# Altium schematic symbol library RoboCor.SchLib: 24 symbols
Pins are listed as number, name and electrical type; pins without a type are passive.

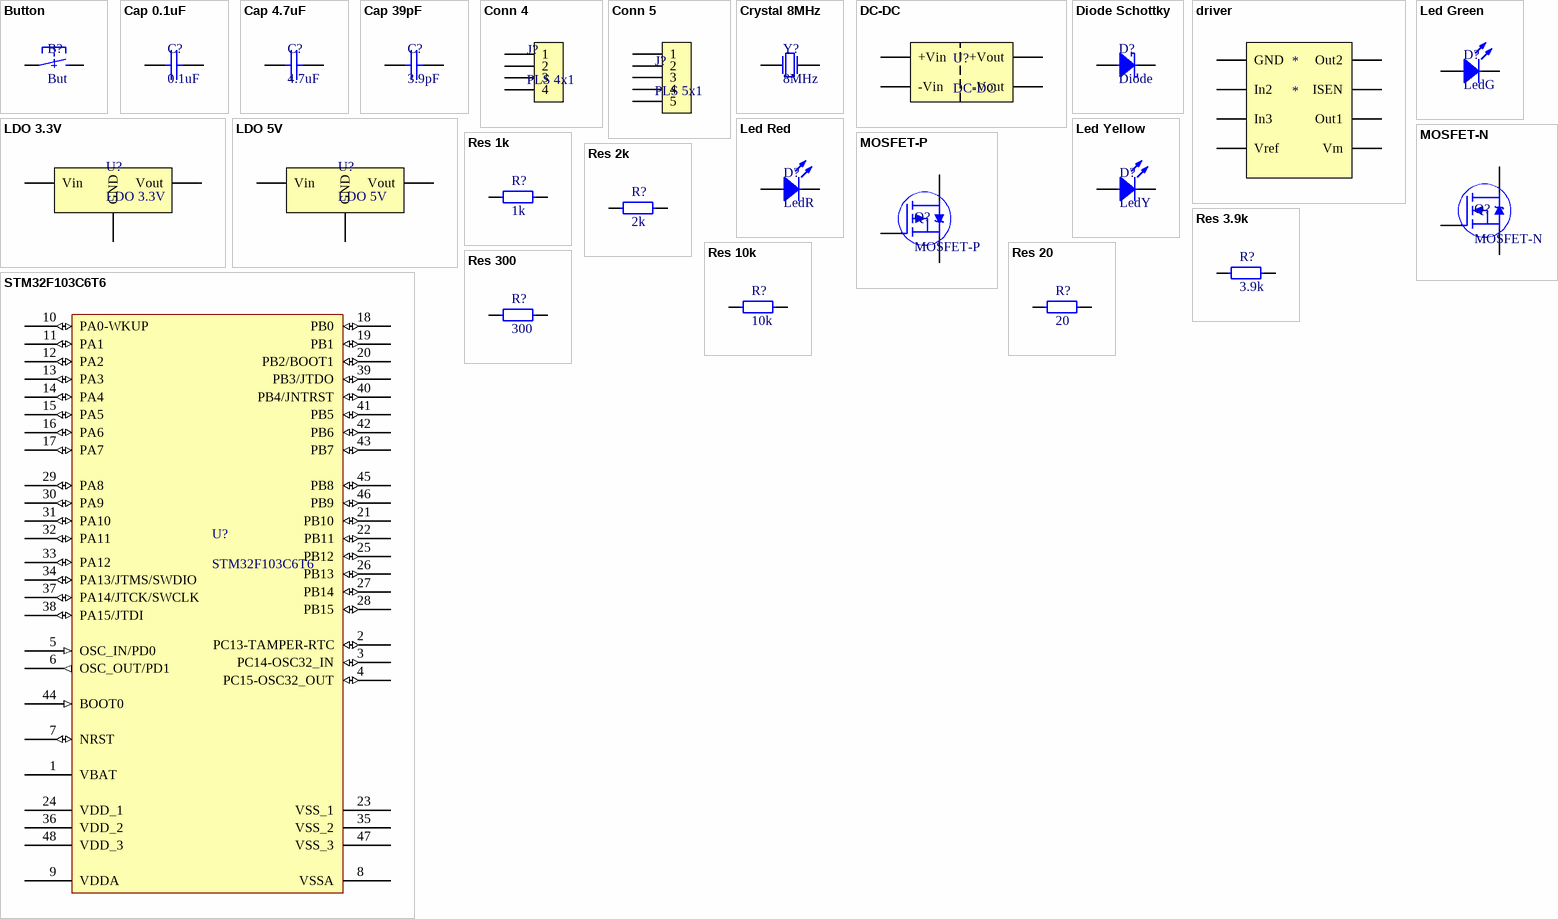
[diagram p0: symbols Button to STM32F103C6T6]

## Button
designator B?, comment But
Button 2 Conn SMD
footprint BUTTON 6x3.5
pins: 1, 2

## Cap 0.1uF
designator C?, comment 0.1uF
footprint 0805 Capicator
pins: 1, 2

## Cap 4.7uF
designator C?, comment 4.7uF
footprint 0805 Capicator
pins: 1, 2

## Cap 39pF
designator C?, comment 3.9pF
footprint 0805 Capicator
pins: 1, 2

## Conn 4
designator J?, comment PLS 4x1
Header, 4-Pin
footprint PLS 4x1 (Connector; Header; 5 Position)
pins: 1, 2, 3, 4

## Conn 5
designator J?, comment PLS 5x1
Header, 5-Pin
footprint PLS 5x1 (Connector; Header; 5 Position)
pins: 1, 2, 3, 4, 5

## Crystal 8MHz
designator Y?, comment 8MHz
Crystal. HC-49SM (US)
footprint hc-49sm
pins: 1, 2

## DC-DC
designator U?
footprint DC-DC
pins: 1 +Vin (power), 2 -Vin (power), 3 +Vout (power), 4 -Vout (power)

## Diode Schottky
designator D?, comment Diode
0.5 A, Low Forward Voltage less than 385 mV, 400 mW Power Dissipation Package
footprint sod-123
pins: 1, 2

## driver
designator *
footprint SO-8
pins: 1 GND (power), 2 In2 (power), 3 In3 (power), 4 Vref (power), 5 Vm (power), 6 Out1 (power), 7 ISEN (power), 8 Out2 (power)

## LDO 3.3V
designator U?
LDO Regulator Pos 3.3V 1.3A 4-Pin(3+Tab) SOT-223 T/R
footprint SOT-223
pins: 1 GND (power), 2 Vout (power), 3 Vin (power)

## LDO 5V
designator U?
LDO Regulator Pos 5V 1A
footprint TO-252
pins: 1 GND (power), 2 Vout (power), 3 Vin (power)

## Led Green
designator D?, comment LedG
footprint 0805 Led
pins: 1, 2

## Led Red
designator D?, comment LedR
footprint 0805 Led
pins: 1, 2

## Led Yellow
designator D?, comment LedY
footprint 0805 Led
pins: 1, 2

## MOSFET-N
designator Q?
N-Channel Power MOSFET
footprint SOT-23
pins: 1 Gate, 2 Source, 3 Drain

## MOSFET-P
designator Q?
P-Channel Power MOSFET 12V to 20V, Infineon
footprint SOT-23
pins: 1 Gate, 2 Source, 3 Drain

## Res 1k
designator R?, comment 1k
footprint 0805 Resistor
pins: 1, 2

## Res 2k
designator R?, comment 2k
footprint 0805 Resistor
pins: 1, 2

## Res 3.9k
designator R?, comment 3.9k
footprint 0805 Resistor
pins: 1, 2

## Res 10k
designator R?, comment 10k
footprint 0805 Resistor
pins: 1, 2

## Res 20
designator R?, comment 20
footprint 0805 Resistor
pins: 1, 2

## Res 300
designator R?, comment 300
footprint 0805 Resistor
pins: 1, 2

## STM32F103C6T6
designator U?
footprint STM32F103C6T6
pins: 1 VBAT (power), 2 PC13-TAMPER-RTC (io), 3 PC14-OSC32_IN (io), 4 PC15-OSC32_OUT (io), 5 OSC_IN/PD0 (in), 6 OSC_OUT/PD1 (out), 7 NRST (io), 8 VSSA (power), 9 VDDA (power), 10 PA0-WKUP (io), 11 PA1 (io), 12 PA2 (io), 13 PA3 (io), 14 PA4 (io), 15 PA5 (io), 16 PA6 (io), 17 PA7 (io), 18 PB0 (io), 19 PB1 (io), 20 PB2/BOOT1 (io), 21 PB10 (io), 22 PB11 (io), 23 VSS_1 (power), 24 VDD_1 (power), 25 PB12 (io), 26 PB13 (io), 27 PB14 (io), 28 PB15 (io), 29 PA8 (io), 30 PA9 (io), 31 PA10 (io), 32 PA11 (io), 33 PA12 (io), 34 PA13/JTMS/SWDIO (io), 35 VSS_2 (power), 36 VDD_2 (power), 37 PA14/JTCK/SWCLK (io), 38 PA15/JTDI (io), 39 PB3/JTDO (io), 40 PB4/JNTRST (io), 41 PB5 (io), 42 PB6 (io), 43 PB7 (io), 44 BOOT0 (in), 45 PB8 (io), 46 PB9 (io), 47 VSS_3 (power), 48 VDD_3 (power)